# EAGLE library part LT1610 (library ads4)
Linear Technology LT1610 Boost Converter
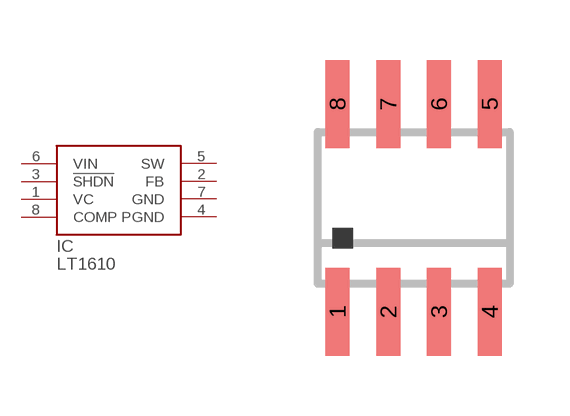
[diagram p66: symbol with the pads of SOIC8; footprint SOIC8]

Designator prefix IC

## LT1610S8  [SOIC8]
1  VC  pas
2  FB  pas
3  !SHDN  pas
4  PGND  pas
5  SW  pas
6  VIN  pas
7  GND  pas
8  COMP  pas

## Footprint SOIC8 (pad centres in mm)
Small Outline IC From ref-packages.lbr
smd 0.6 x 2.2: 1 -1.905,-2.6; 2 -0.635,-2.6; 3 0.635,-2.6; 4 1.905,-2.6; 5 1.905,2.6; 6 0.635,2.6; 7 -0.635,2.6; 8 -1.905,2.6